# Altium schematic symbol library DB3X317K0L.Schlib: 1 symbol
Pins are listed as number, name and electrical type; pins without a type are passive.

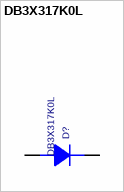
[diagram p0: symbol DB3X317K0L]

## DB3X317K0L
designator D?
1A, 30V Schottky
pins: 1 A, 3 K